# EAGLE library part MCP4*2 (library dac)
DAC 8BIT DUAL SPI/VREF
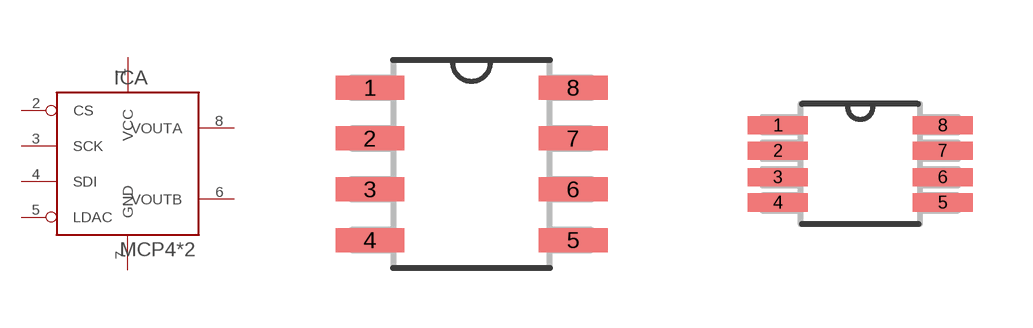
[diagram p0: symbol with the pads of SOIC-8; footprints SOIC-8, MSOP-8]

Designator prefix IC; gates A=MCP4802-E/SN P=PWRGND

## MCP4802E-SN, MCP4812E-SN, MCP4822E-SN  [SOIC-8]
1  P:VCC  pwr
2  A:CS  in
3  A:SCK  in
4  A:SDI  in
5  A:LDAC  in
6  A:VOUTB  out
7  P:GND  pwr
8  A:VOUTA  out

## MCP42E-MS  [MSOP-8]
Pads as for SOIC-8

## MCP42E-P  [DIL08]
Pads as for SOIC-8

## Footprint SOIC-8 (pad centres in mm)
smd 1.72 x 0.6: 1 -2.54,1.905; 2 -2.54,0.635; 3 -2.54,-0.635; 4 -2.54,-1.905; 5 2.54,-1.905; 6 2.54,-0.635; 7 2.54,0.635; 8 2.54,1.905

## Footprint MSOP-8 (pad centres in mm)
smd 1.499 x 0.457: 1 -2.057,0.965; 2 -2.057,0.33; 3 -2.057,-0.33; 4 -2.057,-0.965; 5 2.057,-0.965; 6 2.057,-0.33; 7 2.057,0.33; 8 2.057,0.965

## Footprint DIL08 (pad centres in mm)
Dual In Line Package
drill 0.813 long: 1 -3.81,-3.81; 2 -1.27,-3.81; 3 1.27,-3.81; 4 3.81,-3.81; 5 3.81,3.81; 6 1.27,3.81; 7 -1.27,3.81; 8 -3.81,3.81